# Altium footprint library Components - 24.10.24 - 13.40.PcbLib: 1 footprints
Each footprint in its own frame and in the unit in brackets; x right, y up, seen from the top. Pads: shape width x height; smd on the part's side, far side on the other; paste and mask are expansions set on the pad; w line width, h text height; cw(c..) or ccw(c..) is an arc to the next point about the centre after c.
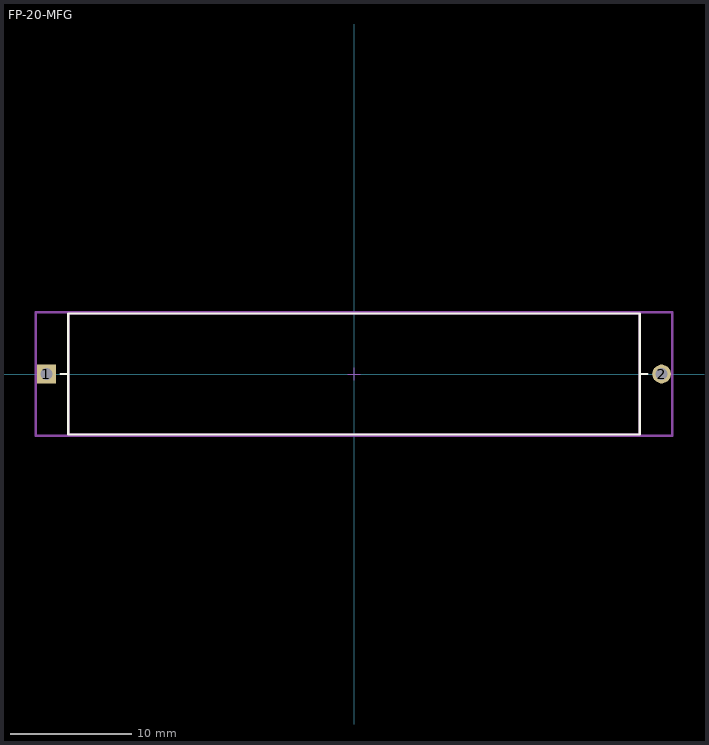
[diagram p0: the footprint, top view; thin cyan lines are the x and y axes]

## FP-20-MFG [mm]
pads (2):
  rect 1.55x1.55 hole 1 paste-1000 mask+0: 1(-25.412,0)
  round 1.55 hole 1 paste-1000 mask+0: 2(25.412,0)
Top Overlay:
  lines w0.2: -24.237,0 -23.6,0 ; 23.6,0 24.237,0 ; -23.6,-5 23.6,-5 23.6,5 -23.6,5 -23.6,-5
Mechanical 5:
  lines w0.2: -26.287,-5.1 26.287,-5.1 26.287,5.1 -26.287,5.1 -26.287,-5.1
  text ".Designator" at 0,0.187 h1
Mechanical 13:
  lines w0.2: -23.6,-5 23.6,-5 23.6,5 -23.6,5 -23.6,-5
Mechanical 15:
  lines w0.2: -26.287,-5.1 26.287,-5.1 26.287,5.1 -26.287,5.1 -26.287,-5.1
Mechanical 16:
  lines w0.1: -0.5,0 0.5,0 ; 0,-0.5 0,0.5
3D body "Res_Ohmite_20J20K_eec.STEP": height 0.25, standoff 0, extent -26.287,-5.1 26.287,5.1